# Altium schematic symbol library CY8C4024LQI-S401.SchLib: 1 symbol
Pins are listed as number, name and electrical type; pins without a type are passive.

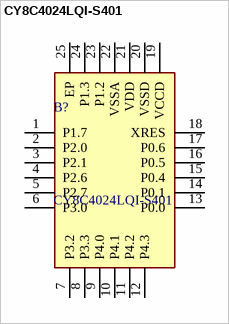
[diagram p0: symbol CY8C4024LQI-S401]

## CY8C4024LQI-S401
designator B?
32-bit Microcontrollers - MCU PSoC4; Manufacturer_Name: Infineon; Geometry.Height: 0.6mm; Mouser Part Number: 727-CY8C4024LQI-S401; Mouser Price/Stock: https://www.mouser.co.uk/ProductDetail/Infineon-Technologies/CY8C4024LQI-S401?qs=JseWDPAoSPbM3yjOOH99ZQ%3D%3D; Manufacturer_Part_Number: CY8C4024LQI-S401; Datasheet Link: https://www.infineon.com/assets/row/public/documents/30/49/infineon-psoc-4000s-datasheet-datasheet-en.pdf
footprint QFN50P400X400X60-25N-D
pins: 1 P1.7, 2 P2.0, 3 P2.1, 4 P2.6, 5 P2.7, 6 P3.0, 7 P3.2, 8 P3.3, 9 P4.0, 10 P4.1, 11 P4.2, 12 P4.3, 13 P0.0, 14 P0.1, 15 P0.4, 16 P0.5, 17 P0.6, 18 XRES, 19 VCCD, 20 VSSD, 21 VDD, 22 VSSA, 23 P1.2, 24 P1.3, 25 EP